# Altium footprint library RP122.PcbLib: 1 footprints
Each footprint in its own frame and in the unit in brackets; x right, y up, seen from the top. Pads: shape width x height; smd on the part's side, far side on the other; paste and mask are expansions set on the pad; w line width, h text height; cw(c..) or ccw(c..) is an arc to the next point about the centre after c.
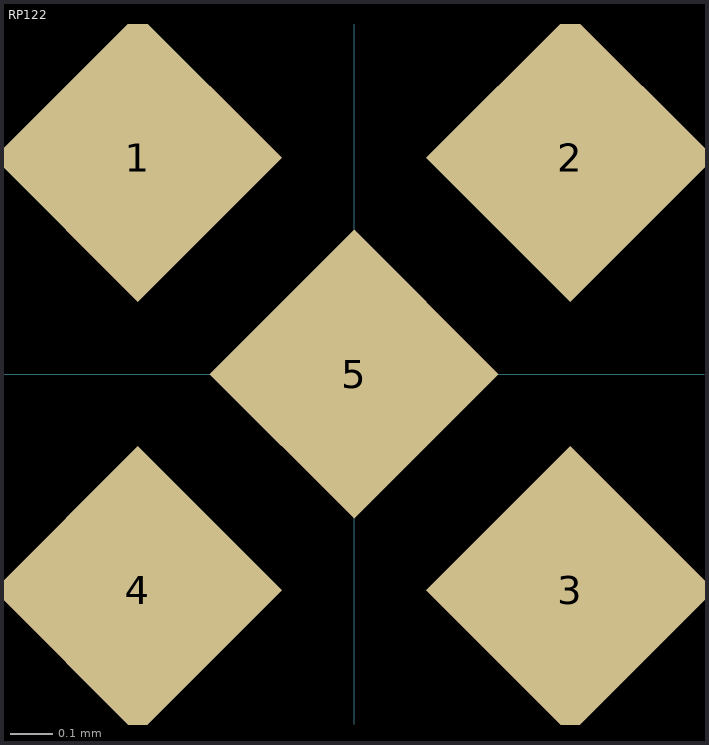
[diagram p0: the footprint, top view; thin cyan lines are the x and y axes]

## RP122 [mm]
pads (5):
  rect 0.48x0.48 smd rot 45: 1(-0.508,0.508) 2(0.508,0.508) 3(0.508,-0.508) 4(-0.508,-0.508) 5(0,0)